# Altium footprint library 691 318 700 0xx.PcbLib: 6 footprints
Each footprint in its own frame and in the unit in brackets; x right, y up, seen from the top. Pads: shape width x height; smd on the part's side, far side on the other; paste and mask are expansions set on the pad; w line width, h text height; cw(c..) or ccw(c..) is an arc to the next point about the centre after c.
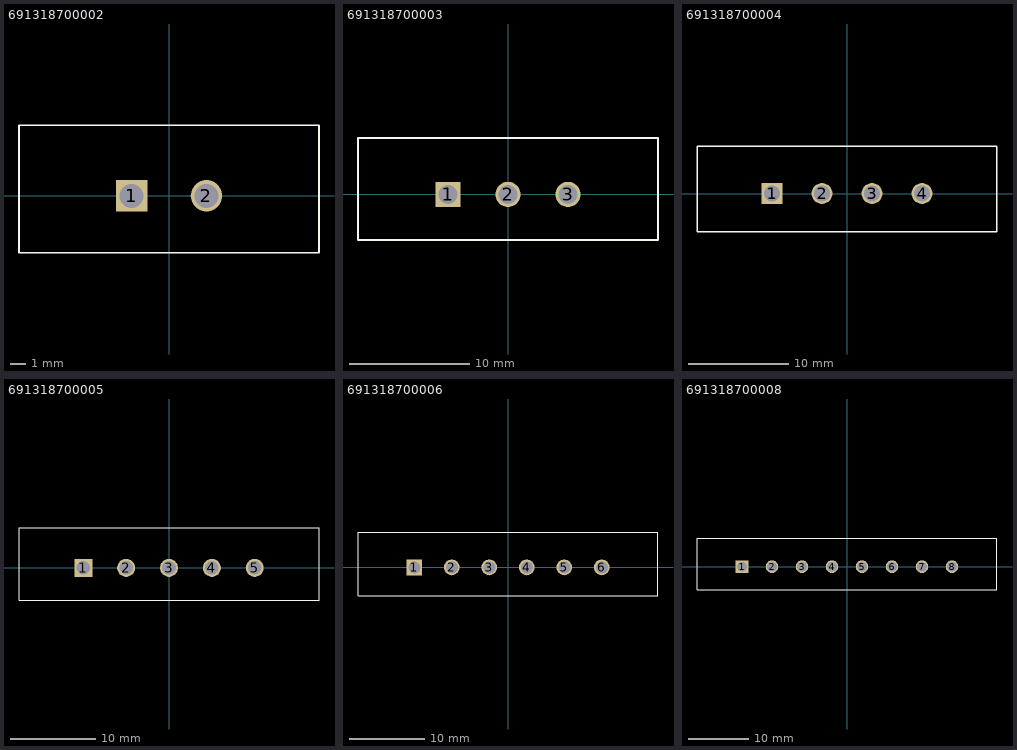
[diagram p0: the footprints below, top view; thin cyan lines are the x and y axes]

## 691318700002 [mm] "5.00mm - Closed Vertical PCB Header with Flanges - 02p"
height 12
pads (2):
  rect 2.1x2.1 hole 1.6: 1(-2.5,0)
  round 2.1 hole 1.6: 2(2.5,0)
Top Overlay:
  lines w0.127: -10,-3.8 -10,4.7 10,4.7 10,-3.8 -10,-3.8
3D body: height 12.01, standoff -3.99, extent -10,-3.8 10,4.7

## 691318700003 [mm] "5.00mm - Closed Vertical PCB Header with Flanges - 03p"
height 12
pads (3):
  rect 2.1x2.1 hole 1.6: 1(-5,0)
  round 2.1 hole 1.6: 2(0,0) 3(5,0)
Top Overlay:
  lines w0.127: -12.5,-3.8 -12.5,4.7 12.5,4.7 12.5,-3.8 -12.5,-3.8
3D body: height 12.01, standoff -3.99, extent -12.5,-3.8 12.5,4.7

## 691318700004 [mm] "5.00mm - Closed Vertical PCB Header with Flanges - 04p"
height 12
pads (4):
  rect 2.1x2.1 hole 1.6: 1(-7.5,0)
  round 2.1 hole 1.6: 2(-2.5,0) 3(2.5,0) 4(7.5,0)
Top Overlay:
  lines w0.127: -15,-3.8 -15,4.7 15,4.7 15,-3.8 -15,-3.8
3D body: height 12.01, standoff -3.99, extent -15,-3.8 15,4.7

## 691318700005 [mm] "5.00mm - Closed Vertical PCB Header with Flanges - 05p"
height 12
pads (5):
  rect 2.1x2.1 hole 1.6: 1(-10,0)
  round 2.1 hole 1.6: 2(-5,0) 3(0,0) 4(5,0) 5(10,0)
Top Overlay:
  lines w0.127: -17.5,-3.8 -17.5,4.7 17.5,4.7 17.5,-3.8 -17.5,-3.8
3D body: height 12.01, standoff -3.99, extent -17.5,-3.8 17.5,4.7

## 691318700006 [mm] "5.00mm - Closed Vertical PCB Header with Flanges - 06p"
height 12
pads (6):
  rect 2.1x2.1 hole 1.6: 1(-12.5,0)
  round 2.1 hole 1.6: 2(-7.5,0) 3(-2.5,0) 4(2.5,0) 5(7.5,0) 6(12.5,0)
Top Overlay:
  lines w0.127: -20,-3.8 -20,4.7 20,4.7 20,-3.8 -20,-3.8
3D body: height 12.01, standoff -3.99, extent -20,-3.8 20,4.7

## 691318700008 [mm] "5.00mm - Closed Vertical PCB Header with Flanges - 08p"
height 12
pads (8):
  rect 2.1x2.1 hole 1.6: 1(-17.5,0)
  round 2.1 hole 1.6: 2(-12.5,0) 3(-7.5,0) 4(-2.5,0) 5(2.5,0) 6(7.5,0) 7(12.5,0) 8(17.5,0)
Top Overlay:
  lines w0.127: -25,-3.8 -25,4.7 25,4.7 25,-3.8 -25,-3.8
3D body: height 12.01, standoff -3.99, extent -25,-3.8 25,4.7